# Altium footprint library Footprint_LED.PcbLib: 5 footprints
Each footprint in its own frame and in the unit in brackets; x right, y up, seen from the top. Pads: shape width x height; smd on the part's side, far side on the other; paste and mask are expansions set on the pad; w line width, h text height; cw(c..) or ccw(c..) is an arc to the next point about the centre after c.
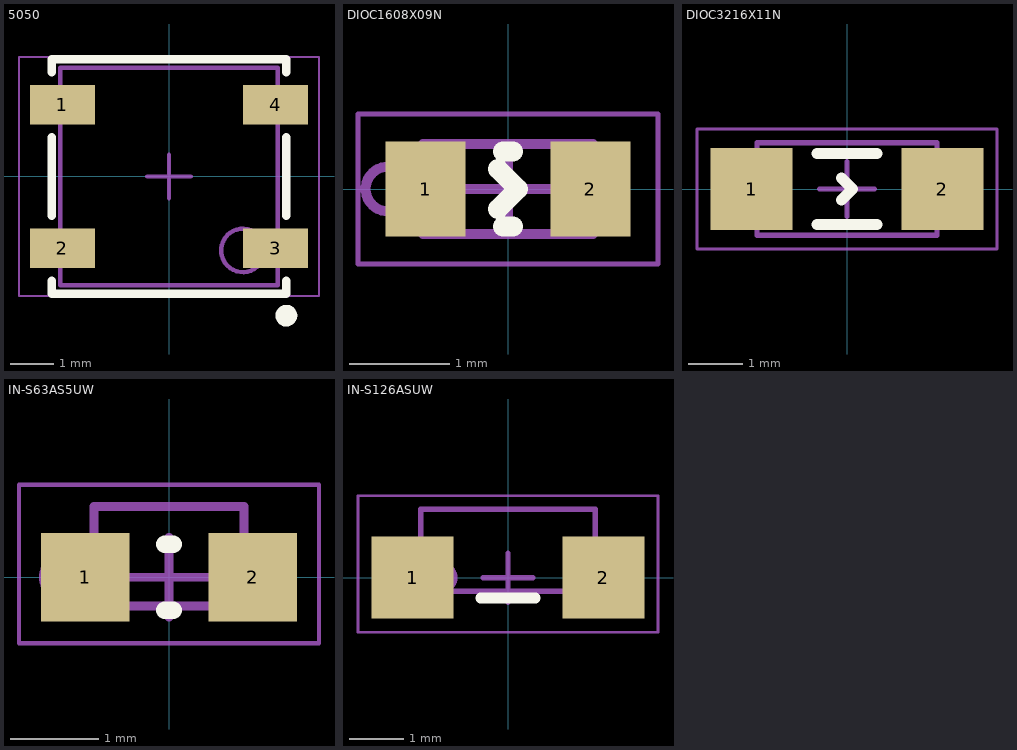
[diagram p0: the footprints below, top view; thin cyan lines are the x and y axes]

## 5050 [mm] "5050, 4-Leads, Body 5.00x5.00mm, Pitch 4.9mm, IPC Medium Density"
pads (4):
  rect 1.5x0.9 smd: 1(-2.45,1.65) 2(-2.45,-1.65) 3(2.45,-1.65) 4(2.45,1.65)
Top Overlay:
  circle w0.25: c2.7,-3.2 r0.125
  lines w0.2: -2.7,-2.4 -2.7,-2.7 2.7,-2.7 2.7,-2.4 ; -2.7,-0.9 -2.7,0.9 ; -2.7,2.4 -2.7,2.7 2.7,2.7 2.7,2.4 ; 2.7,-0.9 2.7,0.9
Top Assembly:
  circle w0.1: c1.7,-1.7 r0.5
  lines w0.1: -2.5,-2.5 2.5,-2.5 2.5,2.5 -2.5,2.5 -2.5,-2.5
  text ".Designator" at -7.8,-1.3 h1.27
Top Courtyard:
  lines w0.05: -3.45,-2.75 -3.45,2.75 3.45,2.75 3.45,-2.75 -3.45,-2.75
  lines w0.1: -0.5,0 0.5,0 ; 0,-0.5 0,0.5
3D body "WS2812_RGB_LED_updated.stp": height 1.7, standoff 0, extent -2.675,-2.475 2.675,2.475

## DIOC1608X09N [mm] "Chip Diode, 2-Leads, Body 1.60x0.80mm, IPC Medium Density"
height 0.9
pads (2):
  rect 0.8x0.95 smd: 1(-0.825,0) 2(0.825,0)
Top Overlay:
  lines w0.2: -0.1,-0.2 0.1,0 -0.1,0.2 ; -0.05,-0.375 0.05,-0.375 ; -0.05,0.375 0.05,0.375
Top Assembly:
  circle w0.1: c-1.2,0 r0.224
  lines w0.1: -0.85,-0.45 0.85,-0.45 0.85,0.45 -0.85,0.45 -0.85,-0.45
  text ".Designator" at -7.747,-1.243 h0.38
Top Courtyard:
  lines w0.05: -1.5,-0.75 -1.5,0.75 1.5,0.75 1.5,-0.75 -1.5,-0.75
  lines w0.1: -0.45,0 0.45,0 ; 0,-0.45 0,0.45
3D body "LTST-C190KRKT--3DModel-STEP-56544.STEP": height 0.8, standoff 0, extent -0.8,-0.4 0.8,0.4

## DIOC3216X11N [mm] "Chip Diode, 2-Leads, Body 3.20x1.60mm, IPC Medium Density"
height 1.1
pads (2):
  rect 1.5x1.5 smd: 1(-1.75,0) 2(1.75,0)
Top Overlay:
  lines w0.2: -0.55,-0.65 0.55,-0.65 ; -0.55,0.65 0.55,0.65 ; -0.1,-0.2 0.1,0 -0.1,0.2
Top Assembly:
  lines w0.1: -1.65,-0.85 1.65,-0.85 1.65,0.85 -1.65,0.85 -1.65,-0.85
  text ".Designator" at -7.747,-1.243 h0.38
Top Courtyard:
  lines w0.05: -2.75,-1.1 2.75,-1.1 2.75,1.1 -2.75,1.1 -2.75,-1.1
  lines w0.1: -0.5,0 0.5,0 ; 0,-0.5 0,0.5
3D body "LTST-C230KRKT--3DModel-STEP-56544.STEP": height 1.1, standoff 0, extent -1.6,-0.8 1.6,0.8

## IN-S63AS5UW [mm] "LED WHITE CLEAR 0603 SMD R/A"
height 0.9
pads (2):
  rect 1x1 smd: 1(-0.95,0) 2(0.95,0)
Top Overlay:
  lines w0.2: -0.05,-0.375 0.05,-0.375 ; -0.05,0.375 0.05,0.375
Top Assembly:
  circle w0.1: c-1.2,0 r0.224
  lines w0.1: -0.85,-0.325 -0.85,0.8 0.85,0.8 0.85,-0.325 -0.85,-0.325
  text ".Designator" at -7.747,-1.243 h0.38
Top Courtyard:
  lines w0.05: -1.7,-0.75 1.7,-0.75 1.7,1.05 -1.7,1.05 -1.7,-0.75
  lines w0.1: -0.45,0 0.45,0 ; 0,-0.45 0,0.45
3D body "stepFile(1).stp": height 0.6, standoff 0, extent -0.85,-0.32 0.85,0.8

## IN-S126ASUW [mm] "LED WHITE CLEAR 1206 SMD R/A"
height 0.9
pads (2):
  rect 1.5x1.5 smd: 1(-1.75,0) 2(1.75,0)
Top Overlay:
  lines w0.2: -0.5,-0.375 0.5,-0.375
Top Assembly:
  circle w0.1: c-1.2,0 r0.224
  lines w0.1: -1.598,-0.25 1.602,-0.25 1.602,1.25 -1.598,1.25 -1.598,-0.25
  text ".Designator" at -7.747,-1.243 h0.51
Top Courtyard:
  lines w0.05: -2.75,-1 -2.75,1.5 2.75,1.5 2.75,-1 -2.75,-1
  lines w0.1: -0.45,0 0.45,0 ; 0,-0.45 0,0.45
3D body "stepFile(2).stp": height 1.03, standoff -0.03, extent -1.598,-0.267 1.602,1.257